# Altium schematic symbol library SCH - ARM CORTEX - STM STM8L101F2Px.SchLib: 1 symbol
Pins are listed as number, name and electrical type; pins without a type are passive.

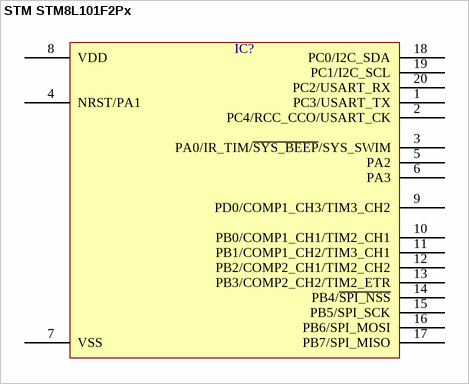
[diagram p0: symbol STM STM8L101F2Px]

## STM STM8L101F2Px
designator IC?  (value not drawn)
pins: 1 PC3/USART_TX, 2 PC4/RCC_CCO/USART_CK, 3 PA0/IR_TIM/~{SYS_BEEP}/SYS_SWIM, 4 NRST/PA1, 5 PA2, 6 PA3, 7 VSS, 8 VDD, 9 PD0/COMP1_CH3/TIM3_CH2, 10 PB0/COMP1_CH1/TIM2_CH1, 11 PB1/COMP1_CH2/TIM3_CH1, 12 PB2/COMP2_CH1/TIM2_CH2, 13 PB3/COMP2_CH2/TIM2_ETR, 14 PB4/~{SPI_NSS}, 15 PB5/SPI_SCK, 16 PB6/SPI_MOSI, 17 PB7/SPI_MISO, 18 PC0/I2C_SDA, 19 PC1/I2C_SCL, 20 PC2/USART_RX